# Altium schematic symbol library INS.SchLib: 13 symbols
Pins are listed as number, name and electrical type; pins without a type are passive.

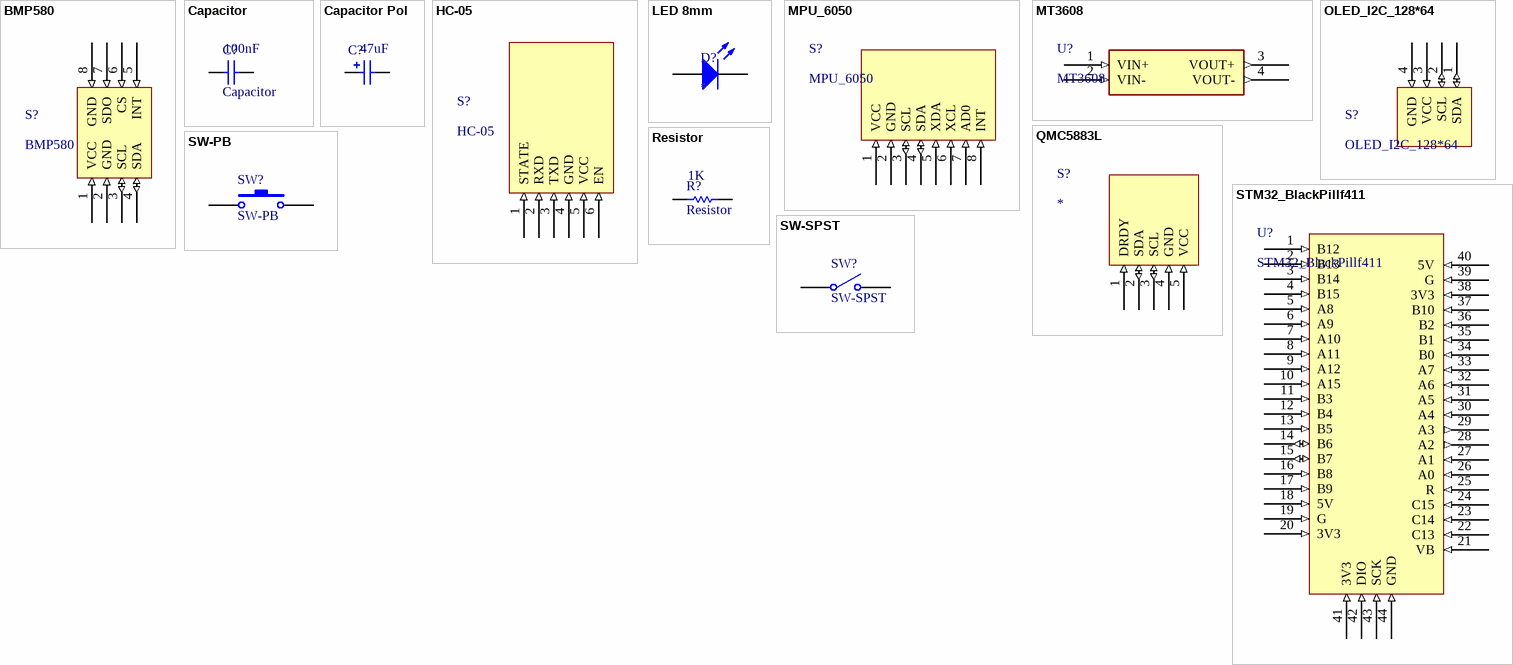
[diagram p0: symbols BMP580 to SW-SPST]

## BMP580
designator S?
footprint BMP580_HDR1x4
pins: 1 VCC (in), 2 GND (in), 3 SCL (io), 4 SDA (io), 5 INT (in), 6 CS (in), 7 SDO (in), 8 GND (in)

## Capacitor
designator C?  value 100nF
Published: 8-Jun-2000; LatestRevisionDate: 17-Jul-2002; LatestRevisionNote: Re-released for DXP Platform.; PackageReference: RAD-0.3; Publisher: Altium Limited; PackageDescription: Radial Cap, Thru-Hole; 2 Leads; 0.3 in Pin Spacing
footprint RAD-0.3 (Radial Cap, Thru-Hole; 2 Leads; 0.3 in Pin Spacing)
simulation model CAP (Capacitor)
signal-integrity model Cap
pins: 1, 2

## Capacitor Pol
designator C?  value 47uF
Polarized Capacitor (Radial); Published: 8-Jun-2000; LatestRevisionDate: 17-Jul-2002; LatestRevisionNote: Re-released for DXP Platform.; PackageReference: RB7.6-15; Publisher: Altium Limited; PackageDescription: Polarized Capacitor (Radial); 2 Leads
simulation model CAP (Capacitor)
signal-integrity model Cap Pol
footprint Capacitor Pol
pins: 1, 2
1 alternate drawing of the same symbol

## HC-05
designator S?
footprint HC-05_HDR1x6H
pins: 1 STATE (in), 2 RXD (in), 3 TXD (in), 4 GND (in), 5 VCC (in), 6 EN (in)

## LED 8mm
designator D?
footprint LED 8mm
pins: 1, 2

## MPU_6050
designator S?
footprint MPU6050_HDR1X8 (Connector; Header; 8 Position)
pins: 1 VCC (in), 2 GND (in), 3 SCL (io), 4 SDA (io), 5 XDA (in), 6 XCL (in), 7 AD0 (in), 8 INT (in)

## MT3608
designator U?
footprint MT3608 (DC-DC)
pins: 1 VIN+ (in), 2 VIN- (in), 3 VOUT+ (out), 4 VOUT- (out)

## OLED_I2C_128*64
designator S?
footprint OLED_HDR1x4
pins: 1 SDA (io), 2 SCL (io), 3 VCC (in), 4 GND (in)

## QMC5883L
designator S?
footprint QMC5883L
pins: 1 DRDY (in), 2 SDA (io), 3 SCL (io), 4 GND (in), 5 VCC (in)

## Resistor
designator R?  value 1K
Published: 8-Jun-2000; LatestRevisionDate: 17-Jul-2002; LatestRevisionNote: Re-released for DXP Platform.; PackageReference: AXIAL-0.3; Publisher: Altium Limited; PackageDescription: Axial Device, Thru-Hole; 2 Leads; 0.3 in Pin Spacing
footprint AXIAL-0.3 (Axial Device, Thru-Hole; 2 Leads; 0.3 in Pin Spacing)
simulation model RESISTOR (Resistor)
signal-integrity model Res
pins: 1, 2

## STM32_BlackPillf411
designator U?
footprint STM32_HDR2x20
pins: 1 B12 (in), 2 B13 (in), 3 B14 (in), 4 B15 (in), 5 A8 (in), 6 A9 (in), 7 A10 (in), 8 A11 (in), 9 A12 (in), 10 A15 (in), 11 B3 (in), 12 B4 (in), 13 B5 (in), 14 B6 (io), 15 B7 (io), 16 B8 (in), 17 B9 (in), 18 5V (in), 19 G (in), 20 3V3 (in), 21 VB (in), 22 C13 (in), 23 C14 (in), 24 C15 (in), 25 R (in), 26 A0 (in), 27 A1 (in), 28 A2 (out), 29 A3 (out), 30 A4 (in), 31 A5 (in), 32 A6 (in), 33 A7 (in), 34 B0 (in), 35 B1 (in), 36 B2 (in), 37 B10 (in), 38 3V3 (in), 39 G (in), 40 5V (in), 41 3V3 (in), 42 DIO (in), 43 SCK (in), 44 GND (in)

## SW-PB
designator SW?
Switch; Published: 24-Mar-1999; LatestRevisionDate: 17-Jul-2002; LatestRevisionNote: Re-released for DXP Platform.; PackageReference: SPST-2; Publisher: Altium Limited; PackageDescription: Switch; 2 Leads
footprint SPST-2 (Switch; 2 Leads)
pins: 1, 2

## SW-SPST
designator SW?
Single-Pole, Single-Throw Switch; Published: 24-Mar-1999; LatestRevisionDate: 17-Jul-2002; LatestRevisionNote: Re-released for DXP Platform.; PackageReference: SPST-2; Publisher: Altium Limited; PackageDescription: Switch; 2 Leads
footprint SPST-2 (Switch; 2 Leads)
pins: 1 COMMON, 1 COMMON, 2 NO, 2 NO